# EAGLE library part RS485 (library P442)
Sparkfun BOB-10124 RS485 Breakout Board
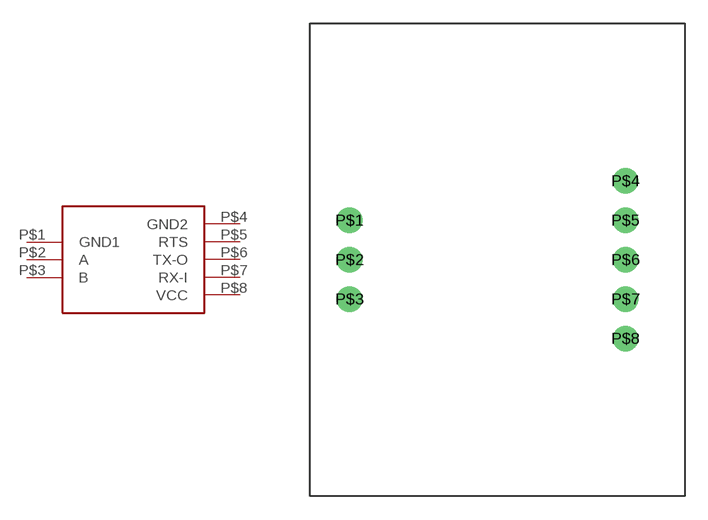
[diagram p11: symbol with the pads of RS485; footprint RS485]

Designator prefix -

## RS485  [RS485]
P$1  GND1
P$2  A
P$3  B
P$4  GND2
P$5  RTS
P$6  TX-O
P$7  RX-I
P$8  VCC

## Footprint RS485 (pad centres in mm)
drill 1.1: P$1 0,0; P$2 0,-2.54; P$3 0,-5.08; P$4 17.78,2.54; P$5 17.78,0; P$6 17.78,-2.54; P$7 17.78,-5.08; P$8 17.78,-7.62